# Altium schematic symbol library diode_A4C13.Schlib: 1 symbol
Pins are listed as number, name and electrical type; pins without a type are passive.

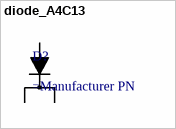
[diagram p0: symbol diode_A4C13]

## diode_A4C13
designator D?
Standard Diode, Anode pins 1+3, Cathode pin 4
pins: 1, 3, 4